# EAGLE library part ACPSA04-41SYKWA (library ClintonLib)
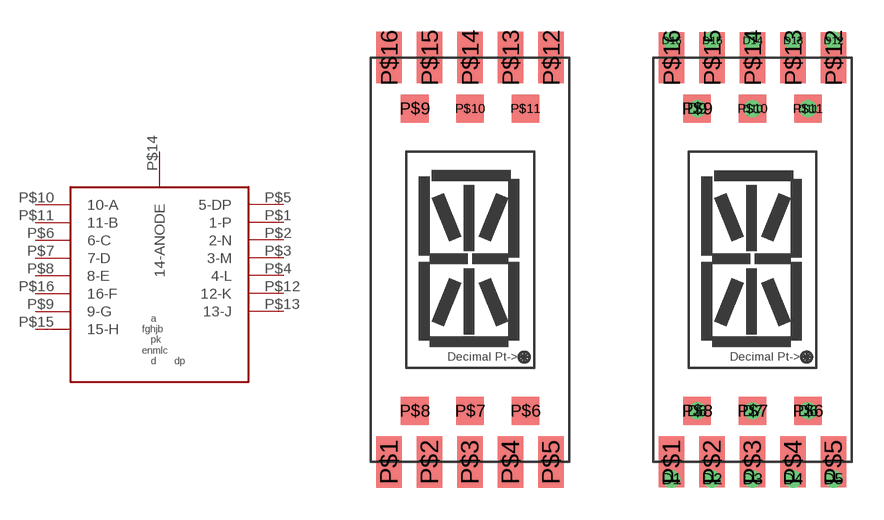
[diagram p1: symbol with the pads of ACPSA04-41SYKWA; footprints ACPSA04-41SYKWA, ACPSA04-41SYKWA_VIP]

Designator prefix -

## ACPSA04-41SYKWA  [ACPSA04-41SYKWA]
P$1  1-P
P$2  2-N
P$3  3-M
P$4  4-L
P$5  5-DP
P$6  6-C
P$7  7-D
P$8  8-E
P$9  9-G
P$10  10-A
P$11  11-B
P$12  12-K
P$13  13-J
P$14  14-ANODE
P$15  15-H
P$16  16-F

## ACPSA04-41SYKWAVIP  [ACPSA04-41SYKWA_VIP]
D1  1-P
D2  2-N
D3  3-M
D4  4-L
D5  5-DP
D6  6-C
D7  7-D
D8  8-E
D9  9-G
D10  10-A
D11  11-B
D12  12-K
D13  13-J
D14  14-ANODE
D15  15-H
D16  16-F
P$1  1-P
P$2  2-N
P$3  3-M
P$4  4-L
P$5  5-DP
P$6  6-C
P$7  7-D
P$8  8-E
P$9  9-G
P$10  10-A
P$11  11-B
P$12  12-K
P$13  13-J
P$14  14-ANODE
P$15  15-H
P$16  16-F

## Footprint ACPSA04-41SYKWA (pad centres in mm)
14-Segment + Decimal Pt Surface Mount Alphanumeric Display See Kingbright website for a brighter version (41SEKWA) or different colors Consider the thermals if using this at high brightness
smd 1.2 x 2.4: P$1 -3.8,-9.5; P$2 -1.9,-9.5; P$3 0,-9.5; P$4 1.9,-9.5; P$5 3.8,-9.5; P$12 3.8,9.5; P$13 1.9,9.5; P$14 0,9.5; P$15 -1.9,9.5; P$16 -3.8,9.5
smd 1.3 x 1.3: P$6 2.6,-7.1; P$7 0,-7.1; P$8 -2.6,-7.1; P$9 -2.6,7.1; P$10 0,7.1; P$11 2.6,7.1

## Footprint ACPSA04-41SYKWA_VIP (pad centres in mm)
14-Segment + Decimal Pt Surface Mount Alphanumeric Display See Kingbright website for a brighter version (41SEKWA) or different colors Consider the thermals if using this at high brightness
drill 0.3: D1 -3.8,-10.3; D2 -1.9,-10.3; D3 0,-10.3; D4 1.9,-10.3; D5 3.8,-10.3; D6 2.6,-7.1; D7 0,-7.1; D8 -2.6,-7.1; D9 -2.6,7.1; D10 0,7.1; D11 2.6,7.1; D12 3.8,10.3; D13 1.9,10.3; D14 0,10.3; D15 -1.9,10.3; D16 -3.8,10.3
smd 1.2 x 2.4: P$1 -3.8,-9.5; P$2 -1.9,-9.5; P$3 0,-9.5; P$4 1.9,-9.5; P$5 3.8,-9.5; P$12 3.8,9.5; P$13 1.9,9.5; P$14 0,9.5; P$15 -1.9,9.5; P$16 -3.8,9.5
smd 1.3 x 1.3: P$6 2.6,-7.1; P$7 0,-7.1; P$8 -2.6,-7.1; P$9 -2.6,7.1; P$10 0,7.1; P$11 2.6,7.1